# Altium schematic symbol library Photocoupler.SchLib: 3 symbols
Pins are listed as number, name and electrical type; pins without a type are passive.

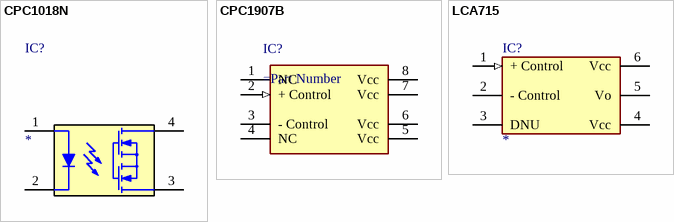
[diagram p0: symbols CPC1018N to LCA715]

## CPC1018N
designator IC?
SSR RELAY SPST-NO 600MA 0-60V / Solid State SPST-NO (1 Form A) / 4-SOP (0.150", 3.81mm); Manufacturer: IXYS; Case: 4-SOP; ComponentLink1Description: HelpURL; ComponentLink1URL: https://www.ixysic.com/home/pdfs.nsf/www/CPC1018N.pdf/$file/CPC1018N.pdf; Supplier 1: Digi-Key; Supplier Part Number 1: CLA225CT-ND
footprint 4-SOP
pins: 1 + Control, 2 - Control, 3 Vcc, 4 Vcc

## CPC1907B
designator IC?
pins: 1 NC, 2 + Control (in), 3 - Control, 4 NC, 5 Vcc (power), 6 Vcc (power), 7 Vcc (power), 8 Vcc (power)

## LCA715
designator IC?
SSR RELAY SPST-NO 2.2A 0-60V / Solid State SPST-NO (1 Form A) / 6-SMD (0.300", 7.62mm); Manufacturer: IXYS; Case: 6-SMD; ComponentLink1Description: HelpURL; ComponentLink1URL: https://www.ixysic.com/home/pdfs.nsf/0/F9381D44DEE0D64A85256E390055B01F/$file/LCA715.pdf; Supplier 1: Digi-Key; Supplier Part Number 1: CLA309CT-ND
footprint 6-SMD
pins: 1 + Control (in), 2 - Control, 3 DNU, 4 Vcc (power), 5 Vo, 6 Vcc (power)